# Altium schematic symbol library Capacitor.SchLib: 75 symbols (part 2 of 2)
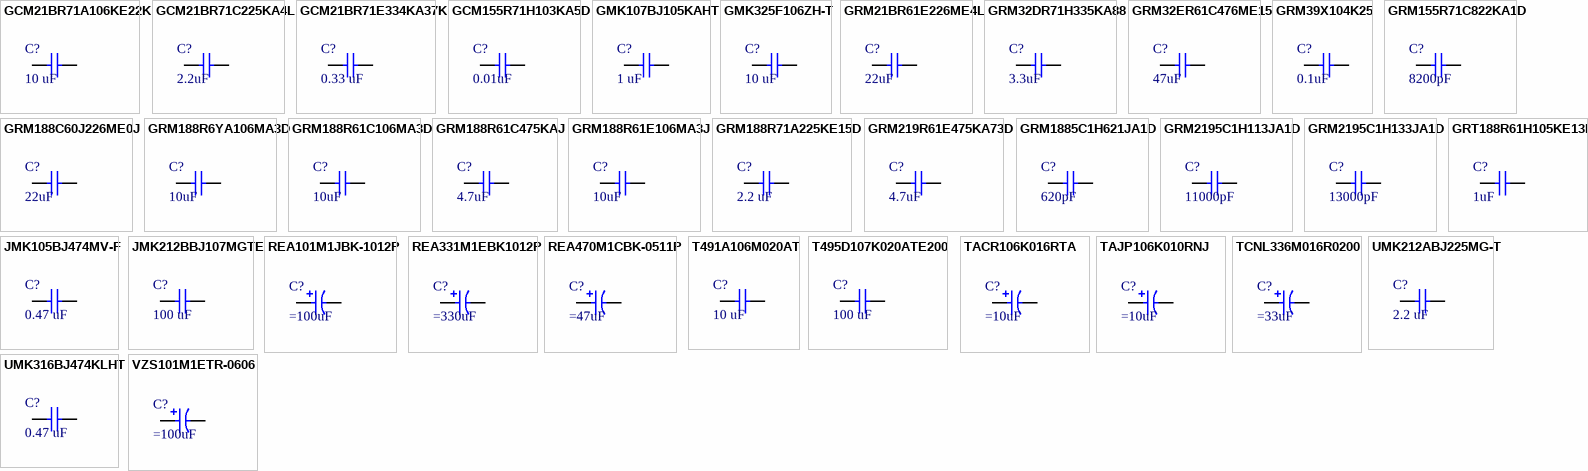
[diagram p2: symbols GCM21BR71A106KE22K to VZS101M1ETR-0606]

## GRT188R61H105KE13D
designator C?, comment 1uF
CAP CER 1uF 50V X5R 0603; Manufacturer: MURATA ELECTRONICS; Part Number: GRT188R61H105KE13D; Tolerance: 10%; Voltage - Rated: 50VDC; Supplier 1: MOUSER; Category: Ceramic capacitor; Price: 1=0,26, 10=0,108, 100=0,091 (USD); Supplier Part Number 1: 81-GRT188R61H105KE13D; Library Ref: Capacitor; Operating Temperature: -55/85ºC; Package / Case: 0603; Size / Dimension: 06X03 IN; Value: 1uF; ESR: https://www.murata.com/en-global/products/productdetail?partno=GRT188R61H105KE13%23; Dieletric: X5R; ComponentLink1Description: Datasheet; ComponentLink1URL: https://br.mouser.com/datasheet/2/281/1/GRT188R61H105KE13_01-1989463.pdf; ComponentLink2Description: Mouser Link; ComponentLink2URL: https://br.mouser.com/ProductDetail/Murata-Electronics/GRT188R61H105KE13D?qs=drgMNd%252BkGPNIxxtJByMGCg%3D%3D
footprint C0603
pins: 1, 2

## JMK105BJ474MV-F
designator C?, comment 0.47 uF
CAP CER 0.47UF 6.3V X5R 0402; Manufacturer: TAIYO YUDEN; Part Number: JMK105BJ474MV-F; Tolerance: 20%; Supplier 1: MOUSER; Category: Ceramic Capacitor; Price: 1= 0.10000, 10= 0.01700, 100= 0.01100 (USD); Supplier Part Number 1: 963-JMK105BJ474MV-F; Library Ref: Capacitor; Operating Temperature: -55°C/85°C; Package / Case: 0402 (1005 metric); Size / Dimension: 1mm x 0.5mm; Value: 0.47 uF; Voltage - Rated: 6.3V; ESR: -; Dieletric: X5R; ComponentLink1Description: Datasheet; ComponentLink1URL: https://br.mouser.com/datasheet/2/396/mlcc02_e-1307760.pdf; ComponentLink2Description: Mouser Link; ComponentLink2URL: https://br.mouser.com/ProductDetail/Taiyo-Yuden/JMK105BJ474MV-F?qs=%2Fha2pyFadugiI00QAdglGm%252BHpMSHZ9JA%252BW8HNFNMNgNP5k7N8pZTqlBM1e12Zb%252B6
footprint C0402
pins: 1, 2

## JMK212BBJ107MGTE
designator C?, comment 100 uF
CAP CER 100UF 6.3V X5R 0805; Manufacturer: TAIYO YUDEN; Part Number: JMK212BBJ107MGTE; Tolerance: 20%; Supplier 1: MOUSER; Category: Ceramic Capacitor; Price: 1= 1.68000, 10= 1.15000, 100= 0.94500 (USD); Supplier Part Number 1: 963-JMK212BBJ107MGTE; Library Ref: Capacitor; Operating Temperature: -55°C/85°C; Package / Case: 0805 (2012 metric); Size / Dimension: 2mm x 1.25mm; Value: 100 uF; Voltage - Rated: 6.3V; ESR: -; Dieletric: X5R; ComponentLink1Description: Datasheet; ComponentLink1URL: https://ds.yuden.co.jp/TYCOMPAS/ut/detail?pn=JMK212BBJ107MG-TE&u=M; ComponentLink2Description: Mouser Link; ComponentLink2URL: https://br.mouser.com/ProductDetail/Taiyo-Yuden/JMK212BBJ107MG-TE?qs=%2Fha2pyFadujnrq1V71i9DT3lBuRfsdZxICgBGkmgMyDSXYhp4%252BfygEm2aQR9aTWJ
footprint C0805
pins: 1, 2

## REA101M1JBK-1012P
designator C?
CAP POL 100uF 63V 10mm x 12.5mm; Manufacturer: Lelon; Part Number: REA101M1JBK-1012P; Tolerance: 20%; Dieletric: Eletrolytic; Supplier 1: Mouser; Category: Electrolytic Capacitors; Price: 1=0,16, 10=0,15, 100=0,14 (USD); Supplier Part Number 1: 140-REA101M1JBK1012P; Library Ref: Capacitor; Operating Temperature: -40 to 85ºC; Package / Case: Radial Leaded; Size / Dimension: 10mm x 12.5mm; Value: 100uF; Voltage - Rated: 63V; ESR: -; ComponentLink1Description: Datasheet; ComponentLink1URL: https://br.mouser.com/datasheet/2/231/lelon_REA[1]-1174811.pdf; ComponentLink2Description: Mouser Link; ComponentLink2URL: https://br.mouser.com/ProductDetail/Lelon/REA101M1JBK-1012P?qs=%2Fha2pyFaduihP%2Fa%252BRFM5YicM96HOgT2LAPeXD4S8nmVk7KY7kskPp8yOrfBFR86Q
pins: 1, 2

## REA331M1EBK1012P
designator C?
CAP POL 330uF 25VDC 10mm x 12.5mm; Manufacturer: Lelon; Part Number: REA331M1EBK1012P; Tolerance: 20%; Voltage - Rated: 25V; Dieletric: Eletrolytic; Supplier 1: Mouser; Category: Electrolytic Capacitors; Price: 1=0,19, 10=0,16, 100=0,14 (USD); Supplier Part Number 1: 140-REA331M1EBK1012P; Library Ref: Capacitor; Operating Temperature: -40 to 85ºC; Package / Case: Radial; Size / Dimension: 10mm x 12.5mm; Value: 330uF; ESR: -; ComponentLink1Description: Mouser Link; ComponentLink1URL: https://br.mouser.com/ProductDetail/Lelon/REA331M1EBK-1012P?qs=%2Fha2pyFadugZxuBFMEJDBy8Ud52x%2FfiScZb%2FhKfsoZDKxW9NEkwY4HjqcHDMKM90; ComponentLink2Description: Datasheet; ComponentLink2URL: https://br.mouser.com/datasheet/2/231/lelon_REA[1]-1174811.pdf
pins: 1, 2

## REA470M1CBK-0511P
designator C?
CAP POL 47uF 16V 5mm x 11mm; Manufacturer: Lelon; Part Number: REA470M1CBK-0511P; Tolerance: 20%; Dieletric: Eletrolytic; Supplier 1: Mouser; Category: Electrolytic Capacitors; Price: 1=0,10, 10=0,07, 100=0,06 (USD); Supplier Part Number 1: 140-REA470M1CBK0511P; Library Ref: Capacitor; Operating Temperature: -40 to 85ºC; Package / Case: Radial; Size / Dimension: 5mm x 11mm; Value: 47uF; Voltage - Rated: 16V; ESR: -; ComponentLink1Description: Datasheet; ComponentLink1URL: https://br.mouser.com/datasheet/2/231/lelon_REA[1]-1174811.pdf; ComponentLink2Description: Mouser Link; ComponentLink2URL: https://br.mouser.com/ProductDetail/Lelon/REA470M1CBK-0511P?qs=%2Fha2pyFadug3cXN2g6VXipmAHgf4kS207oVHgWh3Gpv974Y%2F3Lka8m1t8JmisrNc
pins: 1, 2

## T491A106M020AT
designator C?, comment 10 uF
CAP TAN 10UF 20V 1206; Manufacturer: KEMET; Part Number: T491A106M020AT; Tolerance: 20%; ESR: 5 Ohms; Supplier 1: MOUSER; Category: Tantalum Capacitor; Price: 1= 0.73000, 10= 0.46300, 100= 0.28200 (USD); Supplier Part Number 1: 80-T491A106M020; Library Ref: Capacitor; Operating Temperature: -55°C/125°C; Package / Case: 1206 (3216 metric); Size / Dimension: 3.2mm x 1.6mm; Value: 10 uF; Voltage - Rated: 20V; Dieletric: -; ComponentLink1Description: Datasheet; ComponentLink1URL: https://br.mouser.com/datasheet/2/212/1/KEM_T2005_T491-1093550.pdf; ComponentLink2Description: Mouser Link; ComponentLink2URL: https://br.mouser.com/ProductDetail/KEMET/T491A106M020AT?qs=Ml%2FaxAEbwm9bYqQ5uxsOqg%3D%3D
footprint C1206
pins: 1, 2

## T495D107K020ATE200
designator C?, comment 100 uF
CAP TAN 100UF 20V 2917; Manufacturer: KEMET; Part Number: T495D107K020ATE200; Tolerance: 10%; ESR: 200 mOhms; Supplier 1: MOUSER; Category: Tantalum Capacitor; Price: 1= 2.34000, 10= 1.66000, 100= 1.45000 (USD); Supplier Part Number 1: 80-T495D107K20ATE200; Library Ref: Capacitor; Operating Temperature: -55°C/125°C; Package / Case: 2917 (7343 metric); Size / Dimension: 7.3mm x 4.3mm; Value: 100 uF; Voltage - Rated: 20V; Dieletric: -; ComponentLink1Description: Datasheet; ComponentLink1URL: https://br.mouser.com/datasheet/2/212/1/KEM_T2009_T495-1092841.pdf; ComponentLink2Description: Mouser Link; ComponentLink2URL: https://br.mouser.com/ProductDetail/KEMET/T495D107K020ATE200?qs=%2Fha2pyFadugP9zUtr8D88FAT0WyIE3HaJz7yytxYMzFVX%2F8QNg%252BxxijiyibDvJtN
footprint C2917
pins: 1, 2

## TACR106K016RTA
designator C?
CAP TAN 10uF 16V 0805; Manufacturer: AVX; Part Number: TACR106K016RTA; Tolerance: 10%; ESR: 5Ohms using 100kHz; Dieletric: Tantalum; Supplier 1: Mouser; Category: Tantalum Capacitor; Price: 1=2,54, 10=1,80, 100=1,58 (USD); Supplier Part Number 1: 581-TACR106K016RTA; Library Ref: Capacitor; Operating Temperature: -55 to 125ºC; Package / Case: 0805; Size / Dimension: 08inx05in; Value: 10uF; Voltage - Rated: 16V; ComponentLink1Description: Datasheet; ComponentLink1URL: https://br.mouser.com/datasheet/2/40/tac-776418.pdf; ComponentLink2Description: Mouser Link; ComponentLink2URL: https://br.mouser.com/ProductDetail/AVX/TACR106K016RTA?qs=%2Fha2pyFadujLeE4wL2EKCPdndIQ6DHJ9N9WnpswBy3lqS7yORyQ2ug%3D%3D
pins: 1, 2

## TAJP106K010RNJ
designator C?
CAP TAN 10uF 10V 0805; Manufacturer: AVX; Part Number: TAJP106K010RNJ; Tolerance: 10%; ESR: 7.5Ohms using 400kHz; Dieletric: Tantalum; Supplier 1: Mouser; Category: Tantalum Capacitor; Price: 1=0,53, 10=0,372, 100=0,245 (USD); Supplier Part Number 1: 581-TAJP106K010RNJ; Library Ref: Capacitor; Operating Temperature: -55 to 125ºC; Package / Case: 0805; Size / Dimension: 08inx05in; Value: 10uF; Voltage - Rated: 10V; ComponentLink1Description: Datasheet; ComponentLink1URL: https://br.mouser.com/datasheet/2/40/TAJ_LOW_PROFILE-932651.pdf; ComponentLink2Description: Mouser Link; ComponentLink2URL: https://br.mouser.com/ProductDetail/AVX/TAJP106K010RNJ?qs=vQJa%252BfcOt8MTne6Zr4ogJg%3D%3D
pins: 1, 2

## TCNL336M016R0200
designator C?
CAP TAN 33uF 16V 1210; Manufacturer: AVX; Part Number: TCNL336M016R0200; Tolerance: 20%; ESR: 200mOhm; Dieletric: Tantalum; Supplier 1: Mouser; Category: Tantalum Capacitor; Price: 1=1,23, 10=0,969, 100=0,726 (USD); Supplier Part Number 1: 581-TCNL336M016R0200; Library Ref: Capacitor; Operating Temperature: -55 to 105ºC; Package / Case: 1210; Size / Dimension: 12inx10in; Value: 33uF; Voltage - Rated: 16V; ComponentLink1Description: Datasheet; ComponentLink1URL: https://br.mouser.com/datasheet/2/40/TCN_Undertab-934935.pdf; ComponentLink2Description: Mouser Link; ComponentLink2URL: https://br.mouser.com/ProductDetail/AVX/TCNL336M016R0200?qs=%2Fha2pyFaduj3T4F2tkWqCOPo7x2QBMI697eZkZSXcDcYEWf%2FeZllsKAetAw1n94g
pins: 1, 2

## UMK212ABJ225MG-T
designator C?, comment 2.2 uF
CAP CER 2.2UF 50V X5R 0805; Manufacturer: TAIYO YUDEN; Part Number: UMK212ABJ225MG-T; Tolerance: 20%; Supplier 1: MOUSER; Category: Ceramic Capacitor; Price: 1= 0.26000, 10= 0.13500, 100= 0.09000 (USD); Supplier Part Number 1: 963-UMK212ABJ225MG-T; Library Ref: Capacitor; Operating Temperature: -55°C/85°C; Package / Case: 0805 (2012 metric); Size / Dimension: 2mm x 1.25mm; Value: 2.2 uF; Voltage - Rated: 50V; ESR: -; Dieletric: X5R; ComponentLink1Description: Datasheet; ComponentLink1URL: https://br.mouser.com/datasheet/2/396/mlcc02_e-1307760.pdf; ComponentLink2Description: Mouser Link; ComponentLink2URL: https://br.mouser.com/ProductDetail/Taiyo-Yuden/UMK212ABJ225MG-T?qs=%2Fha2pyFadugZ41x6Xl0bt%2FXK1yoBpDJxAldxBZgezSr0ZGynz3diYivJeoL0DAJV
footprint C0805
pins: 1, 2

## UMK316BJ474KLHT
designator C?, comment 0.47 uF
CAP CER 0.47UF 50V X5R 1206; Manufacturer: TAIYO YUDEN; Part Number: UMK316BJ474KLHT; Tolerance: 10%; Supplier 1: MOUSER; Category: Ceramic Capacitor; Price: 1= 0.34000, 10= 0.15500, 100= 0.10500 (USD); Supplier Part Number 1: 963-UMK316BJ474KLHT; Library Ref: Capacitor; Operating Temperature: -55°C/85°C; Package / Case: 1206 (3216 metric); Size / Dimension: 3.2mm x 1.6mm; Value: 0.47 uF; Voltage - Rated: 50V; ESR: -; Dieletric: X5R; ComponentLink1Description: Datasheet; ComponentLink1URL: https://br.mouser.com/datasheet/2/396/taiyo_yuden_12132018_mlcc11_hq_e-1510082.pdf; ComponentLink2Description: Mouser Link; ComponentLink2URL: https://br.mouser.com/ProductDetail/Taiyo-Yuden/UMK316BJ474KLHT?qs=%2Fha2pyFadugd4B%252Be9PLtGghrVfekmEbEThPmFR6jvb8R8J3cKMu59%2F39wu6DyGc4
footprint C1206
pins: 1, 2

## VZS101M1ETR-0606
designator C?
CAP POL 100uF 25V aluminum SMD; Manufacturer: Lelon; Part Number: VZS101M1ETR-0606; Tolerance: 20%; Supplier 1: Mouser; Category: Aluminum Electrolytic Capacitors; Price: 1=0,31, 10=0,24, 10=0,19 (USD); Supplier Part Number 1: 140-VZS101M1ETR0606; Library Ref: Capacitor; Operating Temperature: -40 to 85ºC; Package / Case: Aluminum Capacitor; Size / Dimension: 6.3mm x 5.7mm; Value: 100uF; Voltage - Rated: 25V; ESR: -; Dieletric: Aluminum; ComponentLink1Description: Mouser Link; ComponentLink1URL: https://br.mouser.com/ProductDetail/Lelon/VZS101M1ETR-0606?qs=%2Fha2pyFadugfLDRVLKW3AQGrOe%252BSnNjsFKSTVGC7yF9W9U5gyiRCCjPFpmhdQCMH; ComponentLink2Description: Datasheet; ComponentLink2URL: https://br.mouser.com/datasheet/2/231/161587298653-2307449.pdf
pins: 1, 2